# Altium schematic symbol library SCH - POWER - LINEAR VREG - TI TL720M05-Q1_KTT_3.SchLib: 1 symbol
Pins are listed as number, name and electrical type; pins without a type are passive.

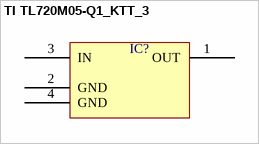
[diagram p0: symbol TI TL720M05-Q1_KTT_3]

## TI TL720M05-Q1_KTT_3
designator IC?  (value not drawn)
pins: 1 OUT, 2 GND, 3 IN, 4 GND